# Altium footprint library LEO_COTS_components.PcbLib: 21 footprints (part 1 of 2)
Each footprint in its own frame and in the unit in brackets; x right, y up, seen from the top. Pads: shape width x height; smd on the part's side, far side on the other; paste and mask are expansions set on the pad; w line width, h text height; cw(c..) or ccw(c..) is an arc to the next point about the centre after c.
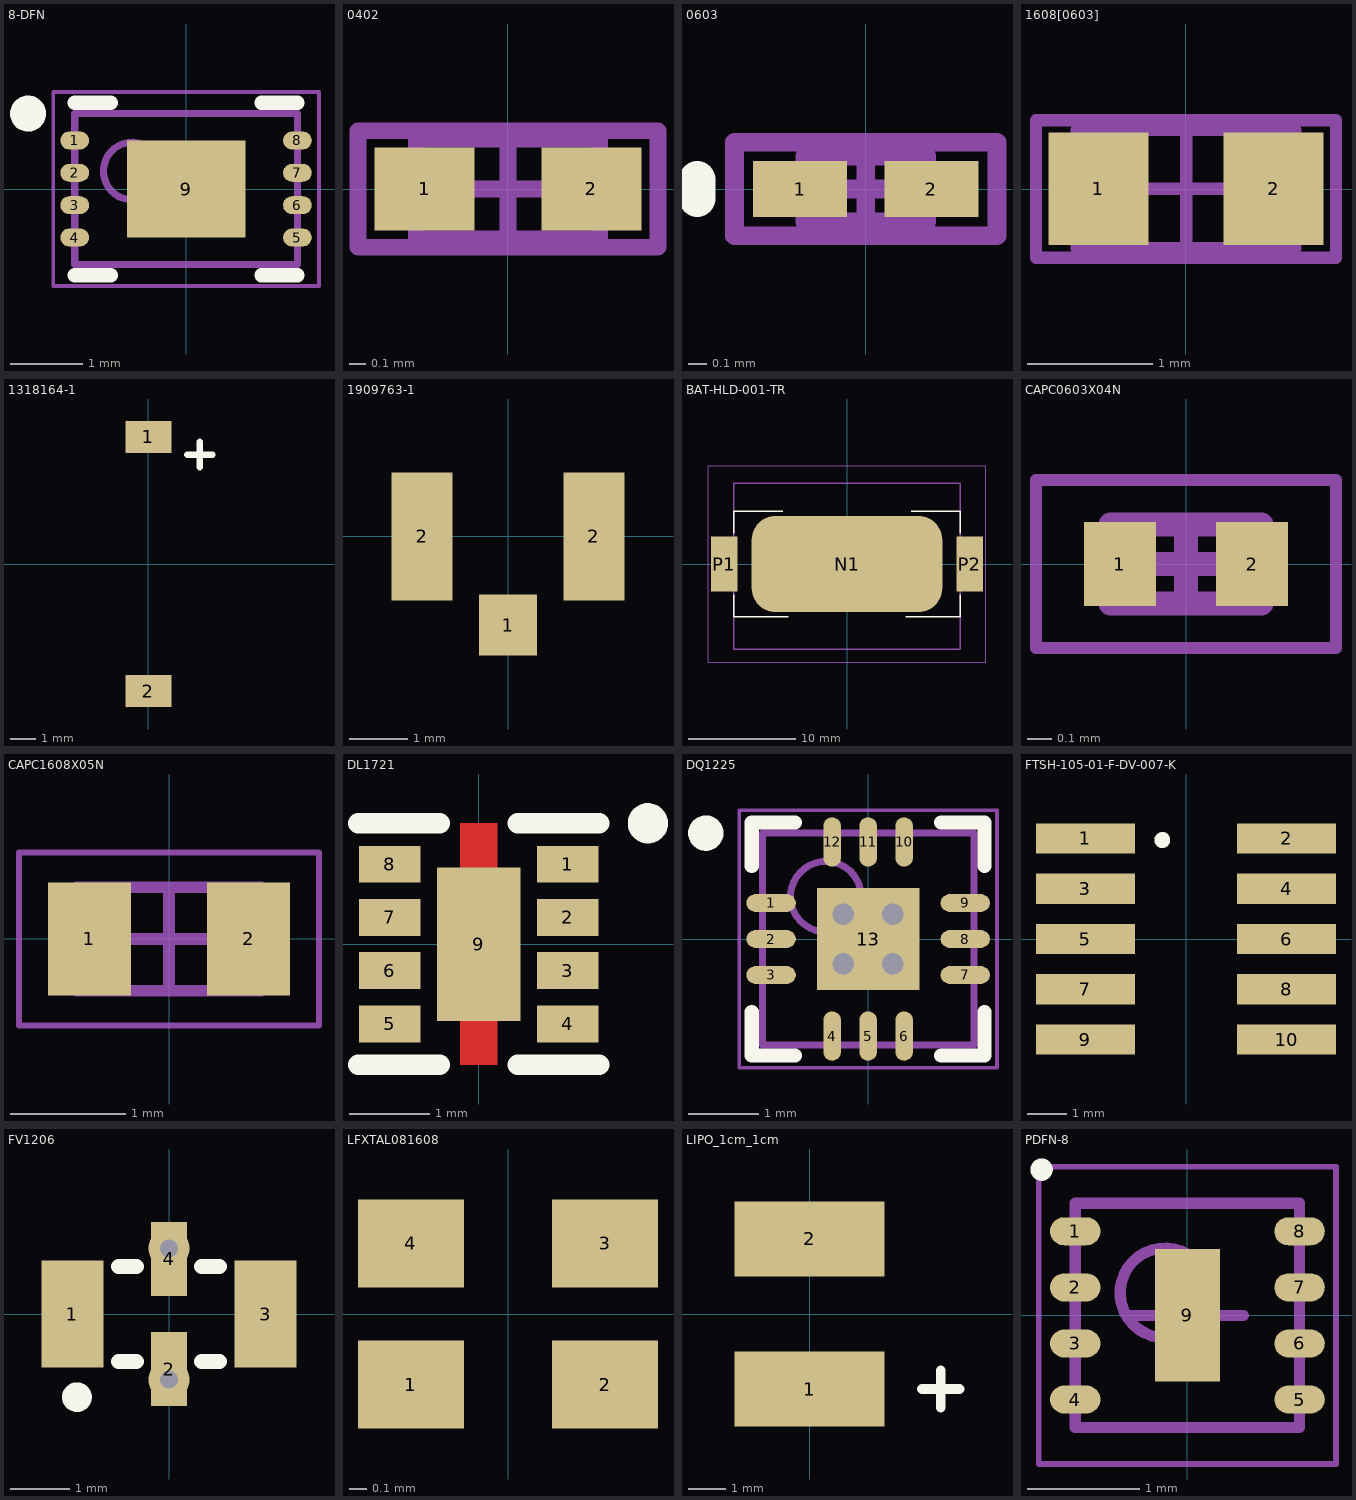
[diagram p0: the footprints below, top view; thin cyan lines are the x and y axes]

## 8-DFN [mm]
height 0.8
pads (9):
  oval 0.4x0.25 smd: 1(-1.55,0.675) 2(-1.55,0.225) 3(-1.55,-0.225) 4(-1.55,-0.675) 5(1.55,-0.675) 6(1.55,-0.225) 7(1.55,0.225) 8(1.55,0.675)
  rect 1.65x1.35 smd: 9(0,0)
Top Overlay:
  circle w0.25: c-2.2,1.05 r0.125
  lines w0.2: -1.55,-1.2 -1.05,-1.2 ; -1.55,1.2 -1.05,1.2 ; 1.05,-1.2 1.55,-1.2 ; 1.05,1.2 1.55,1.2
Mechanical 13:
  circle w0.1: c-0.75,0.25 r0.4
  lines w0.1: -1.55,-1.05 -1.55,1.05 1.55,1.05 1.55,-1.05 -1.55,-1.05
Mechanical 15:
  lines w0.05: -1.85,-1.35 -1.85,1.35 1.85,1.35 1.85,-1.35 -1.85,-1.35
  lines w0.1: -0.5,0 0.5,0 ; 0,-0.5 0,0.5
3D body: height 0.8, standoff 0, extent -1.55,-1.05 1.55,1.05

## 0402 [mm] "Chip Capacitor, Body 1.0x0.5mm, IPC High Density"
height 1.3
pads (2):
  rect 0.6x0.5 smd: 1(-0.5,0) 2(0.5,0)
Mechanical 13:
  lines w0.1: -0.55,-0.3 0.55,-0.3 0.55,0.3 -0.55,0.3 -0.55,-0.3
Mechanical 15:
  lines w0.1: -0.3,0 0.3,0 ; 0,-0.3 0,0.3 ; -0.9,-0.35 0.9,-0.35 0.9,0.35 -0.9,0.35 -0.9,-0.35
3D body: height 1.3, standoff 0, extent -0.55,-0.3 0.55,0.3

## 0603 [mm] "Chip Inductor, Body 0.6x0.3mm, IPC High Density"
height 0.55
pads (2):
  rect 0.5x0.3 smd: 1(-0.35,0) 2(0.35,0)
Top Overlay:
  lines w0.2: -0.9,-0.05 -0.9,0.05
Mechanical 13:
  lines w0.1: -0.325,-0.175 -0.325,0.175 0.325,0.175 0.325,-0.175 -0.325,-0.175
Mechanical 15:
  lines w0.1: -0.175,0 0.175,0 ; 0,-0.175 0,0.175 ; -0.7,-0.25 -0.7,0.25 0.7,0.25 0.7,-0.25 -0.7,-0.25
3D body: height 0.55, standoff 0, extent -0.325,-0.175 0.325,0.175

## 1608[0603] [mm] "Chip Capacitor, Body 1.6x0.8mm, IPC High Density"
height 1.3
pads (2):
  rect 0.8x0.9 smd: 1(-0.7,0) 2(0.7,0)
Mechanical 13:
  lines w0.1: -0.875,-0.475 0.875,-0.475 0.875,0.475 -0.875,0.475 -0.875,-0.475
Mechanical 15:
  lines w0.1: -0.475,0 0.475,0 ; 0,-0.475 0,0.475 ; -1.2,-0.55 1.2,-0.55 1.2,0.55 -1.2,0.55 -1.2,-0.55
3D body: height 1.3, standoff 0, extent -0.875,-0.475 0.875,0.475

## 1318164-1 [mm] "BATTERY HOLDER COIN 6.8MM SMD"
height 2.3
pads (2):
  rect 1.8x1.25 smd: 1(0,5) 2(0,-5)
Top Overlay:
  lines w0.254: 1.521,4.3 2.521,4.3 ; 2.021,3.8 2.021,4.8
3D body "c-1318164-1-o-3d.stp": height 2.3, standoff 0, extent -3.35,-5.2 3.35,5.2

## 1909763-1 [mm]
pads (3):
  rect 1x1.05 smd: 1(0,-1.525)
  rect 1.05x2.2 smd: 2(-1.475,0) 2(1.475,0)
3D body "c-1909763-1-b-3d.stp": height 1.22, standoff -0.01, extent -1.5,-1.55 1.5,1.55

## BAT-HLD-001-TR [mm]
pads (3):
  rrect50% 17.8x9 smd paste-10: N1(0,0)
  rect 2.5x5.1 smd: P1(-11.45,0) P2(11.45,0)
Top Overlay:
  lines w0.127: -10.55,-2.87 -10.55,-4.9 -5.5,-4.9 ; -10.55,2.87 -10.55,4.9 -6,4.9 ; 5.5,-4.9 10.55,-4.9 10.55,-2.87 ; 6,4.9 10.55,4.9 10.55,2.87
Mechanical 13:
  lines w0.127: -10.55,-7.95 10.55,-7.95 10.55,7.55 -10.55,7.55 -10.55,-7.95
Mechanical 15:
  lines w0.05: -12.95,-9.15 12.95,-9.15 12.95,9.15 -12.95,9.15 -12.95,-9.15
3D body "step_temp.STEP": height 4.32, standoff 0, extent -11.43,-7.747 11.43,7.747

## CAPC0603X04N [mm] "Chip Capacitor, 2-Leads, Body 0.60x0.30mm, IPC Medium Density"
height 0.35
pads (2):
  rect 0.3x0.35 smd: 1(-0.275,0) 2(0.275,0)
Mechanical 13:
  lines w0.1: -0.315,-0.165 -0.315,0.165 0.315,0.165 0.315,-0.165 -0.315,-0.165
Mechanical 15:
  lines w0.05: -0.625,-0.35 -0.625,0.35 0.625,0.35 0.625,-0.35 -0.625,-0.35
  lines w0.1: -0.165,0 0.165,0 ; 0,-0.165 0,0.165
3D body "CAPC0603X04N.step": height 0.35, standoff 0, extent -0.315,-0.165 0.315,0.165

## CAPC1608X05N [mm] "Chip Capacitor, 2-Leads, Body 1.55x0.85mm, IPC Medium Density"
height 0.5
pads (2):
  rect 0.72x0.98 smd: 1(-0.69,0) 2(0.69,0)
Mechanical 13:
  lines w0.1: -0.8,-0.45 -0.8,0.45 0.8,0.45 0.8,-0.45 -0.8,-0.45
Mechanical 15:
  lines w0.05: -1.3,-0.75 -1.3,0.75 1.3,0.75 1.3,-0.75 -1.3,-0.75
  lines w0.1: -0.45,0 0.45,0 ; 0,-0.45 0,0.45
3D body "CAPC1608X05N.step": height 0.5, standoff 0, extent -0.8,-0.45 0.8,0.45

## DL1721 [mil]
pads (9):
  rect 30x18 smd paste+0 mask+2: 1(43.5,39) 2(43.5,13) 3(43.5,-13) 4(43.5,-39)
  rect 30x18 smd mask+2: 5(-43.5,-39) 6(-43.5,-13) 7(-43.5,13) 8(-43.5,39)
  rect 41x75 smd paste+0 mask+2: 9(0,0)
Top Layer:
  region: 9,-35.43 9,-59 -9,-59 -9,-35.43
  region: -9,35.43 -9,59 9,59 9,35.43
Top Overlay:
  circle w9.84: c82.68,59 r4.92
  lines w10: -59,-59 -19,-59 ; -59,59 -19,59 ; 19,-59 59,-59 ; 19,59 59,59
3D body: height 45, standoff 0, extent -59,-59 59,59

## DQ1225 [mm]
height 0.89
pads (13):
  oval 0.7x0.25 smd: 1(-1.375,0.51) 2(-1.375,0) 3(-1.375,-0.51) 7(1.375,-0.51) 8(1.375,0) 9(1.375,0.51)
  oval 0.25x0.7 smd: 4(-0.51,-1.375) 5(0,-1.375) 6(0.51,-1.375) 10(0.51,1.375) 11(0,1.375) 12(-0.51,1.375)
  rect 1.45x1.45 smd: 13(0,0)
via 0.35,-0.35 diameter 0.686 hole 0.305
via -0.35,-0.35 diameter 0.686 hole 0.305
via 0.35,0.35 diameter 0.686 hole 0.305
via -0.35,0.35 diameter 0.686 hole 0.305
Top Overlay:
  circle w0.25: c-2.3,1.5 r0.125
  lines w0.2: -1.65,-1.035 -1.65,-1.65 -1.035,-1.65 ; -1.65,1.035 -1.65,1.65 -1.035,1.65 ; 1.035,-1.65 1.65,-1.65 1.65,-1.035 ; 1.035,1.65 1.65,1.65 1.65,1.035
Mechanical 13:
  circle w0.1: c-0.6,0.6 r0.5
  lines w0.1: -1.5,-1.5 1.5,-1.5 1.5,1.5 -1.5,1.5 -1.5,-1.5
Mechanical 15:
  lines w0.05: -1.825,-1.825 1.825,-1.825 1.825,1.825 -1.825,1.825 -1.825,-1.825
  lines w0.1: -0.5,0 0.5,0 ; 0,-0.5 0,0.5
3D body: height 0.89, standoff 0, extent -1.5,-1.5 1.5,1.5

## FTSH-105-01-F-DV-007-K [mm]
pads (10):
  rect 2.5x0.762 smd: 1(-2.54,2.54) 2(2.54,2.54) 3(-2.54,1.27) 4(2.54,1.27) 5(-2.54,0) 6(2.54,0) 7(-2.54,-1.27) 8(2.54,-1.27) 9(-2.54,-2.54) 10(2.54,-2.54)
Top Overlay:
  circle w0.2: c-0.6,2.5 r0.1
3D body "FTSH-105-01-L-DV-007-K.stp": height 6.1, standoff -0.03, extent -2.921,-3.175 2.921,3.175

## FV1206 [mm]
pads (4):
  rect 1.04x1.8 smd: 1(-1.625,0) 3(1.625,0)
  rect 0.61x1.245 smd: 2(0,-0.927) 4(0,0.927)
via 0,1.105 diameter 0.686 hole 0.305
via 0,-1.105 diameter 0.686 hole 0.305
Top Overlay:
  circle w0.25: c-1.55,-1.4 r0.125
  lines w0.254: -0.85,-0.8 -0.55,-0.8 ; -0.85,0.8 -0.55,0.8 ; 0.55,-0.8 0.85,-0.8 ; 0.55,0.8 0.85,0.8
3D body: height 0.94, standoff 0, extent -1.6,-0.8 1.6,0.8

## LFXTAL081608 [mm] "1.6mm x 1.2mm SMD crystal"
height 0.45
pads (4):
  rect 0.6x0.5 smd: 1(-0.55,-0.4) 2(0.55,-0.4) 3(0.55,0.4) 4(-0.55,0.4)
3D body: height 0.4, standoff 0, extent -0.8,-0.6 0.8,0.6

## LIPO_1cm_1cm [mm]
pads (2):
  rect 4x2 smd: 1(0,-2) 2(0,2)
Top Overlay:
  lines w0.254: 3,-2 4,-2 ; 3.5,-2.5 3.5,-1.5

## PDFN-8 [mm]
height 1
pads (9):
  oval 0.45x0.25 smd: 1(-1,0.75) 2(-1,0.25) 3(-1,-0.25) 4(-1,-0.75) 5(1,-0.75) 6(1,-0.25) 7(1,0.25) 8(1,0.75)
  rect 0.58x1.18 smd: 9(0,0)
Top Overlay:
  circle w0.1: c-1.3,1.3 r0.05
Mechanical 13:
  circle w0.1: c-0.2,0.2 r0.4
  lines w0.1: -1,-1 -1,1 1,1 1,-1 -1,-1
Mechanical 15:
  lines w0.05: -1.325,-1.325 -1.325,1.325 1.325,1.325 1.325,-1.325 -1.325,-1.325
  lines w0.1: -0.5,0 0.5,0 ; 0,-0.5 0,0.5
3D body: height 1, standoff 0.05, extent -1,-1 1,1